# EAGLE library part FLAT_ANALOG_JOY (library IntelMKR_ExpP)
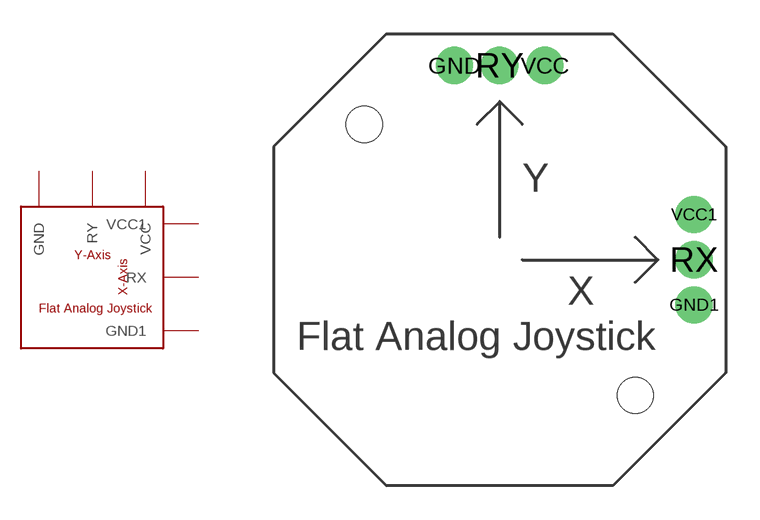
[diagram p2: symbol with the pads of FLAT_ANALOG_JOY; footprint FLAT_ANALOG_JOY]

Designator prefix -

## FLAT_ANALOG_JOY  [FLAT_ANALOG_JOY]
GND  GND
GND1  GND1
RX  RX
RY  RY
VCC  VCC
VCC1  VCC1

## Footprint FLAT_ANALOG_JOY (pad centres in mm)
drill 1.1: GND -2,8.6; GND1 8.6,-2; RX 8.6,0; RY 0,8.6; VCC 2,8.6; VCC1 8.6,2
hole 1.6 at 6,-6
hole 1.6 at -6,6